# Altium schematic symbol library AP2112K-3.3TRG1.SchLib: 1 symbol
Pins are listed as number, name and electrical type; pins without a type are passive.

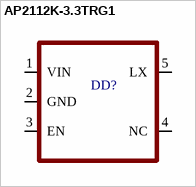
[diagram p0: symbol AP2112K-3.3TRG1]

## AP2112K-3.3TRG1
designator DD?
pins: 1 VIN, 2 GND, 3 EN, 4 NC, 5 LX